# EAGLE library part FT231X (library ICs)
USB Bridge, USB to UART USB 2.0 UART Interface 20-SSOP
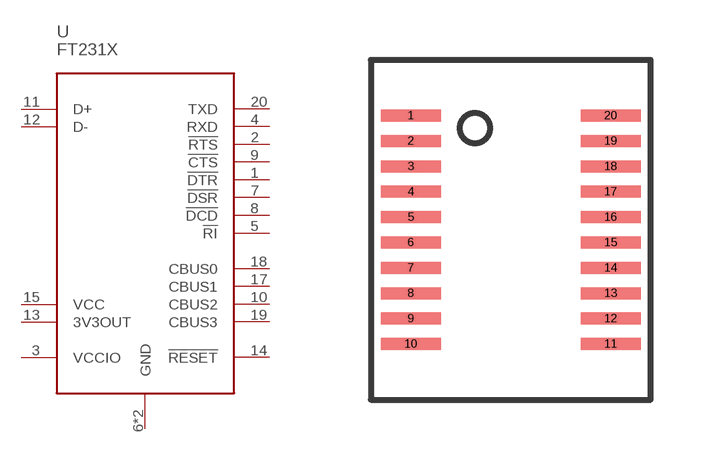
[diagram p228: symbol with the pads of SSOP20-4MM; footprint SSOP20-4MM]

Designator prefix U

## FT231X (DIGIKEY: 768-1129-1-ND; HEIGHT: 1.5; PRICE_PER: 1.68; VALUE: FT231X)  [SSOP20-4MM]
1  !DTR
2  !RTS
3  VCCIO
4  RXD
5  !RI
6  GND
7  !DSR
8  !DCD
9  !CTS
10  CBUS2
11  D+
12  D-
13  3V3OUT
14  !RESET
15  VCC
16  GND
17  CBUS1
18  CBUS0
19  CBUS3
20  TXD

## Footprint SSOP20-4MM (pad centres in mm)
smd 1.5 x 0.3: 1 -2.5,2.857; 2 -2.5,2.223; 3 -2.5,1.587; 4 -2.5,0.953; 5 -2.5,0.318; 6 -2.5,-0.318; 7 -2.5,-0.953; 8 -2.5,-1.587; 9 -2.5,-2.223; 10 -2.5,-2.857; 11 2.5,-2.857; 12 2.5,-2.223; 13 2.5,-1.587; 14 2.5,-0.953; 15 2.5,-0.318; 16 2.5,0.318; 17 2.5,0.953; 18 2.5,1.587; 19 2.5,2.223; 20 2.5,2.857